# EAGLE library part LTC6241 (library LTC6241)
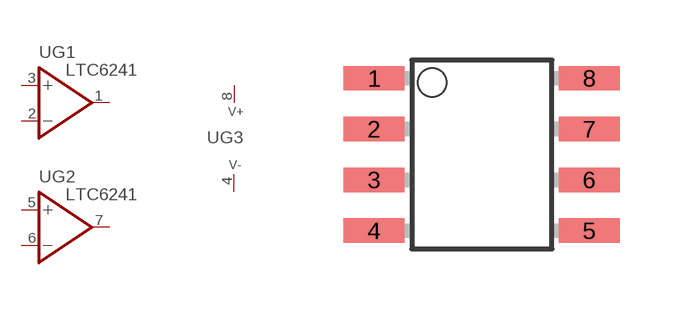
[diagram p0: symbol with the pads of SO-8; footprint SO-8]

Designator prefix -; gates G1=OPAMP G2=OPAMP G3=TLC450P

## LTC6241  [SO-8]
1  G1:OUT  out
2  G1:-IN  in
3  G1:+IN  in
4  G3:V-  pwr
5  G2:+IN  in
6  G2:-IN  in
7  G2:OUT  out
8  G3:V+  pwr

## Footprint SO-8 (pad centres in mm)
SO 8 small outline
smd 1.524 x 0.61: 1 -2.692,1.905; 2 -2.692,0.635; 3 -2.692,-0.635; 4 -2.692,-1.905; 5 2.692,-1.905; 6 2.692,-0.635; 7 2.692,0.635; 8 2.692,1.905